# EAGLE library part POLOLU_DRV8835 (library FA3D_lib)
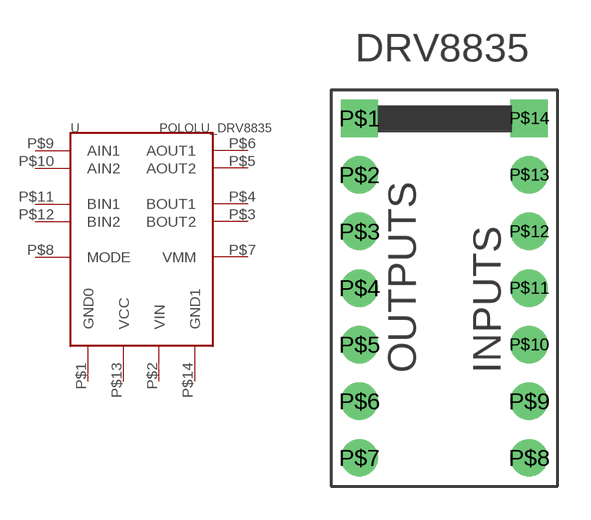
[diagram p0: symbol with the pads of PL_DRV8835; footprint PL_DRV8835]

Designator prefix -

## POLOLU_DRV8835  [PL_DRV8835]
P$1  GND0
P$2  VIN
P$3  BOUT2
P$4  BOUT1
P$5  AOUT2
P$6  AOUT1
P$7  VMM
P$8  MODE
P$9  AIN1
P$10  AIN2
P$11  BIN1
P$12  BIN2
P$13  VCC
P$14  GND1

## Footprint PL_DRV8835 (pad centres in mm)
drill 0.8 pad 1.676 square: P$1 1.27,-1.27; P$14 8.89,-1.27
drill 0.8 pad 1.676: P$2 1.27,-3.81; P$3 1.27,-6.35; P$4 1.27,-8.89; P$5 1.27,-11.43; P$6 1.27,-13.97; P$7 1.27,-16.51; P$8 8.89,-16.51; P$9 8.89,-13.97; P$10 8.89,-11.43; P$11 8.89,-8.89; P$12 8.89,-6.35; P$13 8.89,-3.81